# Altium schematic symbol library Screw.SchLib: 1 symbol
Pins are listed as number, name and electrical type; pins without a type are passive.

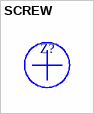
[diagram p0: symbol SCREW]

## SCREW
designator Z?  (no BOM)